# Altium footprint library TO545P2000X491X2918-3.PcbLib: 1 footprints
Each footprint in its own frame and in the unit in brackets; x right, y up, seen from the top. Pads: shape width x height; smd on the part's side, far side on the other; paste and mask are expansions set on the pad; w line width, h text height; cw(c..) or ccw(c..) is an arc to the next point about the centre after c.
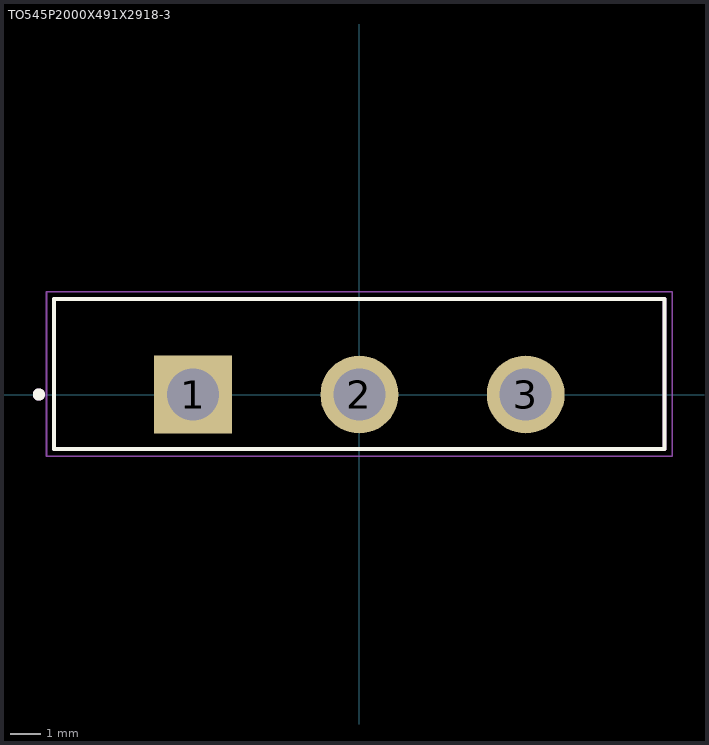
[diagram p0: the footprint, top view; thin cyan lines are the x and y axes]

## TO545P2000X491X2918-3 [mm]
pads (3):
  rect 2.55x2.55 hole 1.7: 1(-5.45,0)
  round 2.55 hole 1.7: 2(0,0) 3(5.45,0)
Top Overlay:
  circle w0.2: c-10.5,0 r0.1
  lines w0.127: -10,-1.78 10,-1.78 10,3.125 -10,3.125 -10,-1.78
Mechanical 13:
  circle w0.2: c-10.5,0 r0.1
  lines w0.127: -10,-1.78 10,-1.78 10,3.125 -10,3.125 -10,-1.78
Mechanical 15:
  lines w0.05: -10.25,-2.03 -10.25,3.375 10.25,3.375 10.25,-2.03 -10.25,-2.03